# Altium footprint library 292100057.PcbLib: 1 footprints
Each footprint in its own frame and in the unit in brackets; x right, y up, seen from the top. Pads: shape width x height; smd on the part's side, far side on the other; paste and mask are expansions set on the pad; w line width, h text height; cw(c..) or ccw(c..) is an arc to the next point about the centre after c.
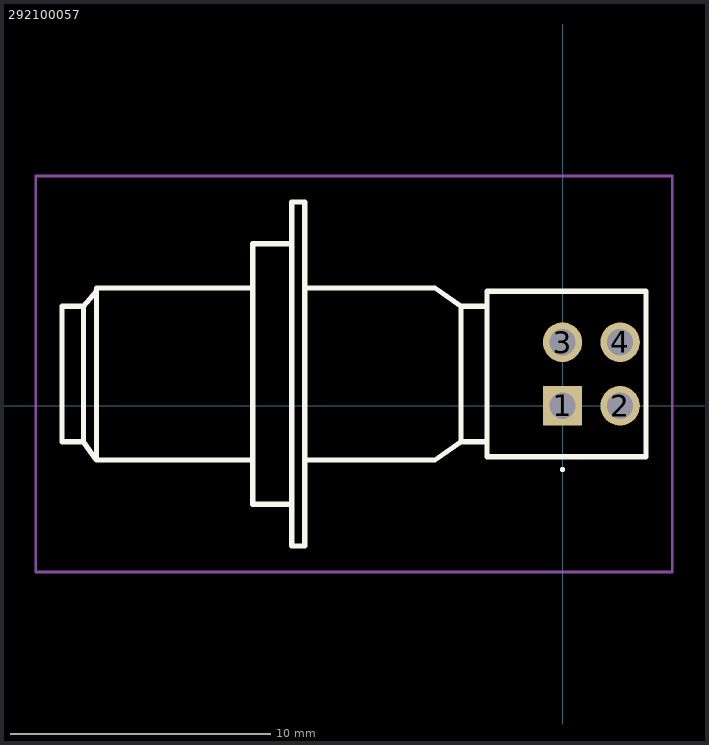
[diagram p0: the footprint, top view; thin cyan lines are the x and y axes]

## 292100057 [mm]
pads (4):
  rect 1.515x1.515 hole 1.01: 1(0,0)
  round 1.515 hole 1.01: 2(2.21,0) 3(0,2.44) 4(2.21,2.44)
Top Overlay:
  lines w0.1: 0,-2.5 cw(c0,-2.45) 0,-2.4 ; 0,-2.5 0,-2.5 ; 0,-2.5 ccw(c0,-2.45) 0,-2.4 ; 0,-2.4 0,-2.4
  lines w0.2: -17.895,4.395 -18.395,3.82 ; -11.895,-2.08 -17.895,-2.08 ; -11.895,4.52 -17.895,4.52 -17.895,-2.08 ; -10.395,-3.78 -11.895,-3.78 -11.895,6.22 -10.395,6.22 ; -9.895,-2.08 -4.895,-2.08 -3.895,-1.38 ; -2.895,-1.38 -3.895,-1.38 ; -2.895,3.82 -3.895,3.82 ; -18.395,-1.38 -18.395,3.82 ; -18.395,-1.38 -17.895,-2.08 ; -18.395,-1.38 -19.22,-1.38 -19.22,3.82 -18.395,3.82 ; -9.895,4.395 -9.895,-5.38 -10.395,-5.38 -10.395,7.82 -9.895,7.82 -9.895,4.52 ; -9.895,4.395 -9.895,4.395 ; -9.895,4.395 -9.895,4.52 ; -9.895,4.52 -4.895,4.52 -3.895,3.82 ; -3.895,-1.38 -3.895,3.82 ; -2.895,-1.955 -2.895,4.395 3.21,4.395 3.21,-1.955 -2.895,-1.955
Mechanical 15:
  lines w0.1: -11.895,-2.08 -17.895,-2.08 ; -11.895,4.52 -17.895,4.52 ; -10.395,-3.78 -11.895,-3.78 -11.895,6.22 -10.395,6.22 ; -2.895,-1.38 -3.895,-1.38 ; -2.895,3.82 -3.895,3.82 ; -19.22,-1.38 -19.22,3.82 -18.395,3.82 ; -19.22,-1.38 -19.22,-1.38 ; -19.22,-1.38 -18.395,-1.38 ; -18.395,-1.38 -18.395,3.82 ; -18.395,-1.38 -17.895,-2.08 ; -18.395,3.82 -17.895,4.52 ; -17.895,-2.08 -17.895,4.52 ; -9.895,-2.08 -9.895,-5.38 -10.395,-5.38 -10.395,7.82 -9.895,7.82 -9.895,6.22 -9.895,4.52 ; -9.895,-2.08 -4.895,-2.08 -3.895,-1.38 ; -9.895,-2.08 -9.895,4.52 ; -9.895,4.52 -4.895,4.52 -3.895,3.82 ; -3.895,-1.38 -3.895,3.82 ; -2.895,-1.955 3.21,-1.955 3.21,4.395 -2.895,4.395 -2.895,-1.955
Mechanical 20:
  lines w0.1: -20.22,-6.38 4.21,-6.38 4.21,8.82 -20.22,8.82 -20.22,-6.38